# Altium schematic symbol library WA-SMSSR.SchLib: 21 symbols
Pins are listed as number, name and electrical type; pins without a type are passive.

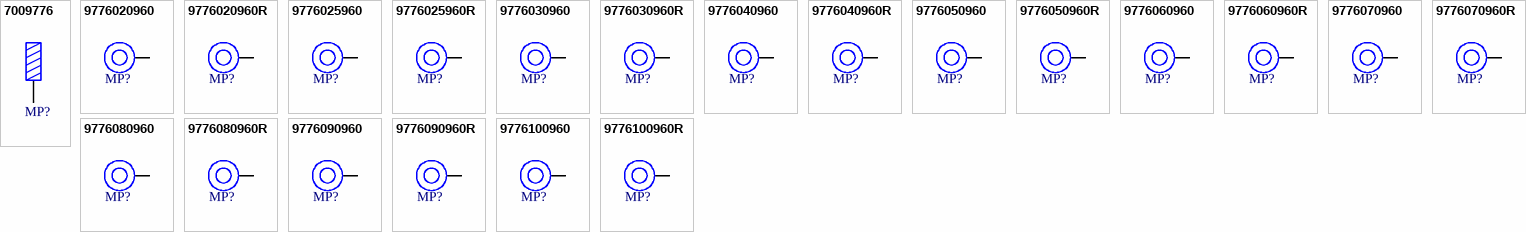
[diagram p0: symbols 7009776 to 9776100960R]

## 7009776
designator MP?  (value not drawn)
WA-SMSSR Snap Rivet for SMT Spacer; Manufacturer: Wurth Elektronik; ComponentLink1Description: Website Link; ComponentLink1URL: https://www.we-online.com/redexpert/article/7009776?ad; ComponentLink2Description: Datasheet Link; ComponentLink2URL: https://www.we-online.com/redexpert/spec/7009776?ad; Manufacturer Part Number: 7009776; Category: SMT Spacers; Match Code: WA-SMSSR; Mount: Snap-In; Operating Temperature Max: 85°C; Operating Temperature Min: -30°C; Packaging: Bag
footprint 7009776
pins: 1

## 9776020960
designator MP?, comment hole 2.15mm x 2mm  (value not drawn)
WA-SMSSR SMT Steel Spacer fixed with snap rivet; Manufacturer Part Number: 9776020960; Manufacturer: Wurth Elektronik; Inside Diameter: 4.2mm; Outside Diameter: 6mm; Surface: Tin; ComponentLink1Description: Website Link; ComponentLink1URL: https://www.we-online.com/redexpert/article/9776020960?ad; ComponentLink2Description: Datasheet Link; ComponentLink2URL: https://www.we-online.com/redexpert/spec/9776020960?ad; Category: SMT Spacers; Match Code: WA-SMSSR; Mount: Surface Mount; Operating Temperature Max: 150°C; Operating Temperature Min: -55°C; Packaging: Bulk; Height: 2mm; Hole Diameter: 2.15mm; Material: Steel
footprint 9776020960
pins: 1

## 9776020960R
designator MP?, comment hole 2.15mm x 2mm  (value not drawn)
WA-SMSSR SMT Steel Spacer fixed with snap rivet; Manufacturer Part Number: 9776020960R; Manufacturer: Wurth Elektronik; Inside Diameter: 4.2mm; Outside Diameter: 6mm; Surface: Tin; ComponentLink1Description: Website Link; ComponentLink1URL: https://www.we-online.com/redexpert/article/9776020960R?ad; ComponentLink2Description: Datasheet Link; ComponentLink2URL: https://www.we-online.com/redexpert/spec/9776020960R?ad; Category: SMT Spacers; Match Code: WA-SMSSR; Mount: Surface Mount; Operating Temperature Max: 150°C; Operating Temperature Min: -55°C; Packaging: Tape and Reel; Height: 2mm; Hole Diameter: 2.15mm; Material: Steel
footprint 9776020960
pins: 1

## 9776025960
designator MP?, comment hole 2.15mm x 2.5mm  (value not drawn)
WA-SMSSR SMT Steel Spacer fixed with snap rivet; Manufacturer Part Number: 9776025960; Manufacturer: Wurth Elektronik; Inside Diameter: 4.2mm; Outside Diameter: 6mm; Surface: Tin; ComponentLink1Description: Website Link; ComponentLink1URL: https://www.we-online.com/redexpert/article/9776025960?ad; ComponentLink2Description: Datasheet Link; ComponentLink2URL: https://www.we-online.com/redexpert/spec/9776025960?ad; Category: SMT Spacers; Match Code: WA-SMSSR; Mount: Surface Mount; Operating Temperature Max: 150°C; Operating Temperature Min: -55°C; Packaging: Bulk; Height: 2.5mm; Hole Diameter: 2.15mm; Material: Steel
footprint 9776025960
pins: 1

## 9776025960R
designator MP?, comment hole 2.15mm x 2.5mm  (value not drawn)
WA-SMSSR SMT Steel Spacer fixed with snap rivet; Manufacturer Part Number: 9776025960R; Manufacturer: Wurth Elektronik; Inside Diameter: 4.2mm; Outside Diameter: 6mm; Surface: Tin; ComponentLink1Description: Website Link; ComponentLink1URL: https://www.we-online.com/redexpert/article/9776025960R?ad; ComponentLink2Description: Datasheet Link; ComponentLink2URL: https://www.we-online.com/redexpert/spec/9776025960R?ad; Category: SMT Spacers; Match Code: WA-SMSSR; Mount: Surface Mount; Operating Temperature Max: 150°C; Operating Temperature Min: -55°C; Packaging: Tape and Reel; Height: 2.5mm; Hole Diameter: 2.15mm; Material: Steel
footprint 9776025960
pins: 1

## 9776030960
designator MP?, comment hole 2.15mm x 3mm  (value not drawn)
WA-SMSSR SMT Steel Spacer fixed with snap rivet; Manufacturer Part Number: 9776030960; Manufacturer: Wurth Elektronik; Inside Diameter: 4.2mm; Outside Diameter: 6mm; Surface: Tin; ComponentLink1Description: Website Link; ComponentLink1URL: https://www.we-online.com/redexpert/article/9776030960?ad; ComponentLink2Description: Datasheet Link; ComponentLink2URL: https://www.we-online.com/redexpert/spec/9776030960?ad; Category: SMT Spacers; Match Code: WA-SMSSR; Mount: Surface Mount; Operating Temperature Max: 150°C; Operating Temperature Min: -55°C; Packaging: Bulk; Height: 3mm; Hole Diameter: 2.15mm; Material: Steel
footprint 9776030960
pins: 1

## 9776030960R
designator MP?, comment hole 2.15mm x 3mm  (value not drawn)
WA-SMSSR SMT Steel Spacer fixed with snap rivet; Manufacturer Part Number: 9776030960R; Manufacturer: Wurth Elektronik; Inside Diameter: 4.2mm; Outside Diameter: 6mm; Surface: Tin; ComponentLink1Description: Website Link; ComponentLink1URL: https://www.we-online.com/redexpert/article/9776030960R?ad; ComponentLink2Description: Datasheet Link; ComponentLink2URL: https://www.we-online.com/redexpert/spec/9776030960R?ad; Category: SMT Spacers; Match Code: WA-SMSSR; Mount: Surface Mount; Operating Temperature Max: 150°C; Operating Temperature Min: -55°C; Packaging: Tape and Reel; Height: 3mm; Hole Diameter: 2.15mm; Material: Steel
footprint 9776030960
pins: 1

## 9776040960
designator MP?, comment hole 2.15mm x 4mm  (value not drawn)
WA-SMSSR SMT Steel Spacer fixed with snap rivet; Manufacturer Part Number: 9776040960; Manufacturer: Wurth Elektronik; Inside Diameter: 4.2mm; Outside Diameter: 6mm; Surface: Tin; ComponentLink1Description: Website Link; ComponentLink1URL: https://www.we-online.com/redexpert/article/9776040960?ad; ComponentLink2Description: Datasheet Link; ComponentLink2URL: https://www.we-online.com/redexpert/spec/9776040960?ad; Category: SMT Spacers; Match Code: WA-SMSSR; Mount: Surface Mount; Operating Temperature Max: 150°C; Operating Temperature Min: -55°C; Packaging: Bulk; Height: 4mm; Hole Diameter: 2.15mm; Material: Steel
footprint 9776040960
pins: 1

## 9776040960R
designator MP?, comment hole 2.15mm x 4mm  (value not drawn)
WA-SMSSR SMT Steel Spacer fixed with snap rivet; Manufacturer Part Number: 9776040960R; Manufacturer: Wurth Elektronik; Inside Diameter: 4.2mm; Outside Diameter: 6mm; Surface: Tin; ComponentLink1Description: Website Link; ComponentLink1URL: https://www.we-online.com/redexpert/article/9776040960R?ad; ComponentLink2Description: Datasheet Link; ComponentLink2URL: https://www.we-online.com/redexpert/spec/9776040960R?ad; Category: SMT Spacers; Match Code: WA-SMSSR; Mount: Surface Mount; Operating Temperature Max: 150°C; Operating Temperature Min: -55°C; Packaging: Tape and Reel; Height: 4mm; Hole Diameter: 2.15mm; Material: Steel
footprint 9776040960
pins: 1

## 9776050960
designator MP?, comment hole 2.15mm x 5mm  (value not drawn)
WA-SMSSR SMT Steel Spacer fixed with snap rivet; Manufacturer Part Number: 9776050960; Manufacturer: Wurth Elektronik; Inside Diameter: 4.2mm; Outside Diameter: 6mm; Surface: Tin; ComponentLink1Description: Website Link; ComponentLink1URL: https://www.we-online.com/redexpert/article/9776050960?ad; ComponentLink2Description: Datasheet Link; ComponentLink2URL: https://www.we-online.com/redexpert/spec/9776050960?ad; Category: SMT Spacers; Match Code: WA-SMSSR; Mount: Surface Mount; Operating Temperature Max: 150°C; Operating Temperature Min: -55°C; Packaging: Bulk; Height: 5mm; Hole Diameter: 2.15mm; Material: Steel
footprint 9776050960
pins: 1

## 9776050960R
designator MP?, comment hole 2.15mm x 5mm  (value not drawn)
WA-SMSSR SMT Steel Spacer fixed with snap rivet; Manufacturer Part Number: 9776050960R; Manufacturer: Wurth Elektronik; Inside Diameter: 4.2mm; Outside Diameter: 6mm; Surface: Tin; ComponentLink1Description: Website Link; ComponentLink1URL: https://www.we-online.com/redexpert/article/9776050960R?ad; ComponentLink2Description: Datasheet Link; ComponentLink2URL: https://www.we-online.com/redexpert/spec/9776050960R?ad; Category: SMT Spacers; Match Code: WA-SMSSR; Mount: Surface Mount; Operating Temperature Max: 150°C; Operating Temperature Min: -55°C; Packaging: Tape and Reel; Height: 5mm; Hole Diameter: 2.15mm; Material: Steel
footprint 9776050960
pins: 1

## 9776060960
designator MP?, comment hole 2.15mm x 6mm  (value not drawn)
WA-SMSSR SMT Steel Spacer fixed with snap rivet; Manufacturer Part Number: 9776060960; Manufacturer: Wurth Elektronik; Inside Diameter: 4.2mm; Surface: Tin; ComponentLink1Description: Website Link; ComponentLink1URL: https://www.we-online.com/redexpert/article/9776060960?ad; ComponentLink2Description: Datasheet Link; ComponentLink2URL: https://www.we-online.com/redexpert/spec/9776060960?ad; Category: SMT Spacers; Match Code: WA-SMSSR; Mount: Surface Mount; Operating Temperature Max: 150°C; Operating Temperature Min: -55°C; Packaging: Bulk; Height: 6mm; Hole Diameter: 2.15mm; Material: Steel; Outside Diameter: 6mm
footprint 9776060960
pins: 1

## 9776060960R
designator MP?, comment hole 2.15mm x 6mm  (value not drawn)
WA-SMSSR SMT Steel Spacer fixed with snap rivet; Manufacturer Part Number: 9776060960R; Manufacturer: Wurth Elektronik; Inside Diameter: 4.2mm; Surface: Tin; ComponentLink1Description: Website Link; ComponentLink1URL: https://www.we-online.com/redexpert/article/9776060960R?ad; ComponentLink2Description: Datasheet Link; ComponentLink2URL: https://www.we-online.com/redexpert/spec/9776060960R?ad; Category: SMT Spacers; Match Code: WA-SMSSR; Mount: Surface Mount; Operating Temperature Max: 150°C; Operating Temperature Min: -55°C; Packaging: Tape and Reel; Height: 6mm; Hole Diameter: 2.15mm; Material: Steel; Outside Diameter: 6mm
footprint 9776060960
pins: 1

## 9776070960
designator MP?, comment hole 2.15mm x 7mm  (value not drawn)
WA-SMSSR SMT Steel Spacer fixed with snap rivet; Manufacturer Part Number: 9776070960; Manufacturer: Wurth Elektronik; Inside Diameter: 4.2mm; Outside Diameter: 6mm; Surface: Tin; ComponentLink1Description: Website Link; ComponentLink1URL: https://www.we-online.com/redexpert/article/9776070960?ad; ComponentLink2Description: Datasheet Link; ComponentLink2URL: https://www.we-online.com/redexpert/spec/9776070960?ad; Category: SMT Spacers; Match Code: WA-SMSSR; Mount: Surface Mount; Operating Temperature Max: 150°C; Operating Temperature Min: -55°C; Packaging: Bulk; Height: 7mm; Hole Diameter: 2.15mm; Material: Steel
footprint 9776070960
pins: 1

## 9776070960R
designator MP?, comment hole 2.15mm x 7mm  (value not drawn)
WA-SMSSR SMT Steel Spacer fixed with snap rivet; Manufacturer Part Number: 9776070960R; Manufacturer: Wurth Elektronik; Inside Diameter: 4.2mm; Outside Diameter: 6mm; Surface: Tin; ComponentLink1Description: Website Link; ComponentLink1URL: https://www.we-online.com/redexpert/article/9776070960R?ad; ComponentLink2Description: Datasheet Link; ComponentLink2URL: https://www.we-online.com/redexpert/spec/9776070960R?ad; Category: SMT Spacers; Match Code: WA-SMSSR; Mount: Surface Mount; Operating Temperature Max: 150°C; Operating Temperature Min: -55°C; Packaging: Tape and Reel; Height: 7mm; Hole Diameter: 2.15mm; Material: Steel
footprint 9776070960
pins: 1

## 9776080960
designator MP?, comment hole 2.15mm x 8mm  (value not drawn)
WA-SMSSR SMT Steel Spacer fixed with snap rivet; Manufacturer Part Number: 9776080960; Manufacturer: Wurth Elektronik; Inside Diameter: 4.2mm; Outside Diameter: 6mm; Surface: Tin; ComponentLink1Description: Website Link; ComponentLink1URL: https://www.we-online.com/redexpert/article/9776080960?ad; ComponentLink2Description: Datasheet Link; ComponentLink2URL: https://www.we-online.com/redexpert/spec/9776080960?ad; Category: SMT Spacers; Match Code: WA-SMSSR; Mount: Surface Mount; Operating Temperature Max: 150°C; Operating Temperature Min: -55°C; Packaging: Bulk; Height: 8mm; Hole Diameter: 2.15mm; Material: Steel
footprint 9776080960
pins: 1

## 9776080960R
designator MP?, comment hole 2.15mm x 8mm  (value not drawn)
WA-SMSSR SMT Steel Spacer fixed with snap rivet; Manufacturer Part Number: 9776080960R; Manufacturer: Wurth Elektronik; Inside Diameter: 4.2mm; Outside Diameter: 6mm; Surface: Tin; ComponentLink1Description: Website Link; ComponentLink1URL: https://www.we-online.com/redexpert/article/9776080960R?ad; ComponentLink2Description: Datasheet Link; ComponentLink2URL: https://www.we-online.com/redexpert/spec/9776080960R?ad; Category: SMT Spacers; Match Code: WA-SMSSR; Mount: Surface Mount; Operating Temperature Max: 150°C; Operating Temperature Min: -55°C; Packaging: Tape and Reel; Height: 8mm; Hole Diameter: 2.15mm; Material: Steel
footprint 9776080960
pins: 1

## 9776090960
designator MP?, comment hole 2.15mm x 9mm  (value not drawn)
WA-SMSSR SMT Steel Spacer fixed with snap rivet; Manufacturer Part Number: 9776090960; Manufacturer: Wurth Elektronik; Inside Diameter: 4.2mm; Outside Diameter: 6mm; Surface: Tin; ComponentLink1Description: Website Link; ComponentLink1URL: https://www.we-online.com/redexpert/article/9776090960?ad; ComponentLink2Description: Datasheet Link; ComponentLink2URL: https://www.we-online.com/redexpert/spec/9776090960?ad; Category: SMT Spacers; Match Code: WA-SMSSR; Mount: Surface Mount; Operating Temperature Max: 150°C; Operating Temperature Min: -55°C; Packaging: Bulk; Height: 9mm; Hole Diameter: 2.15mm; Material: Steel
footprint 9776090960
pins: 1

## 9776090960R
designator MP?, comment hole 2.15mm x 9mm  (value not drawn)
WA-SMSSR SMT Steel Spacer fixed with snap rivet; Manufacturer Part Number: 9776090960R; Manufacturer: Wurth Elektronik; Inside Diameter: 4.2mm; Outside Diameter: 6mm; Surface: Tin; ComponentLink1Description: Website Link; ComponentLink1URL: https://www.we-online.com/redexpert/article/9776090960R?ad; ComponentLink2Description: Datasheet Link; ComponentLink2URL: https://www.we-online.com/redexpert/spec/9776090960R?ad; Category: SMT Spacers; Match Code: WA-SMSSR; Mount: Surface Mount; Operating Temperature Max: 150°C; Operating Temperature Min: -55°C; Packaging: Tape and Reel; Height: 9mm; Hole Diameter: 2.15mm; Material: Steel
footprint 9776090960
pins: 1

## 9776100960
designator MP?, comment hole 2.15mm x 10mm  (value not drawn)
WA-SMSSR SMT Steel Spacer fixed with snap rivet; Manufacturer Part Number: 9776100960; Manufacturer: Wurth Elektronik; Inside Diameter: 4.2mm; Outside Diameter: 6mm; Surface: Tin; ComponentLink1Description: Website Link; ComponentLink1URL: https://www.we-online.com/redexpert/article/9776100960?ad; ComponentLink2Description: Datasheet Link; ComponentLink2URL: https://www.we-online.com/redexpert/spec/9776100960?ad; Category: SMT Spacers; Match Code: WA-SMSSR; Mount: Surface Mount; Operating Temperature Max: 150°C; Operating Temperature Min: -55°C; Packaging: Bulk; Height: 10mm; Hole Diameter: 2.15mm; Material: Steel
footprint 9776100960
pins: 1

## 9776100960R
designator MP?, comment hole 2.15mm x 10mm  (value not drawn)
WA-SMSSR SMT Steel Spacer fixed with snap rivet; Manufacturer Part Number: 9776100960R; Manufacturer: Wurth Elektronik; Inside Diameter: 4.2mm; Outside Diameter: 6mm; Surface: Tin; ComponentLink1Description: Website Link; ComponentLink1URL: https://www.we-online.com/redexpert/article/9776100960R?ad; ComponentLink2Description: Datasheet Link; ComponentLink2URL: https://www.we-online.com/redexpert/spec/9776100960R?ad; Category: SMT Spacers; Match Code: WA-SMSSR; Mount: Surface Mount; Operating Temperature Max: 150°C; Operating Temperature Min: -55°C; Packaging: Tape and Reel; Height: 10mm; Hole Diameter: 2.15mm; Material: Steel
footprint 9776100960
pins: 1